# Altium schematic symbol library stm32xx.SCHLIB: 1 symbol
Pins are listed as number, name and electrical type; pins without a type are passive.

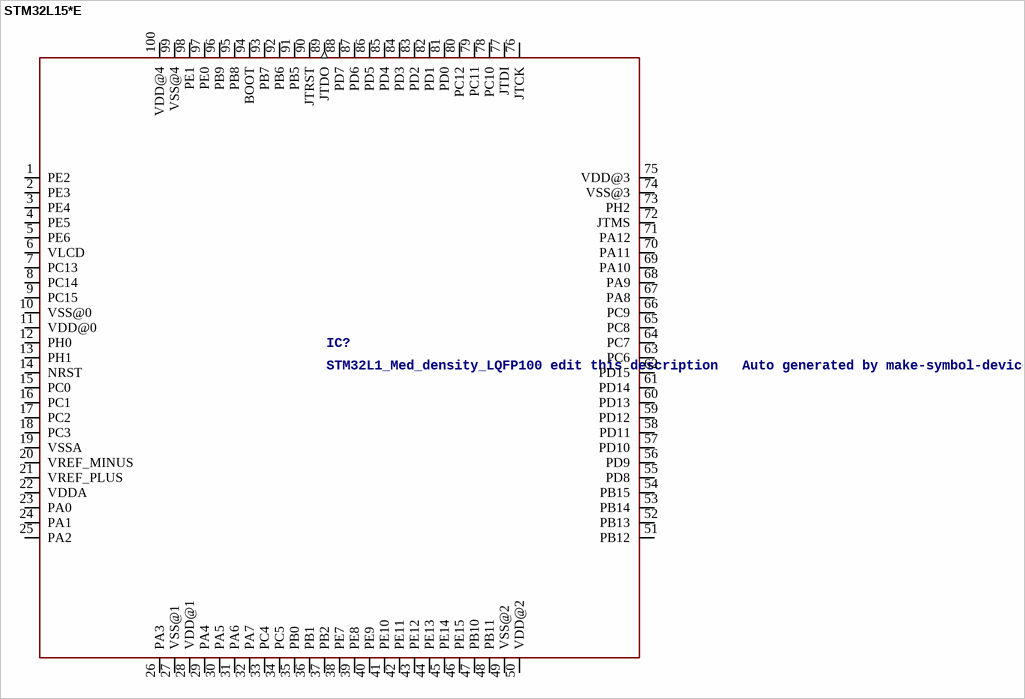
[diagram p0: symbol STM32L15*E]

## STM32L15*E
designator IC?, comment STM32L1_Med_density_LQFP100 edit this description   Auto generated by make-symbol-device-package-bsdl.ulp Rev. 44 Source: STM32L1_Med_density_LQFP100.bsd
footprint LQFP100_14X14
pins: 1 PE2, 2 PE3, 3 PE4, 4 PE5, 5 PE6, 6 VLCD, 7 PC13, 8 PC14, 9 PC15, 10 VSS@0 (power), 11 VDD@0 (power), 12 PH0, 13 PH1, 14 NRST, 15 PC0, 16 PC1, 17 PC2, 18 PC3, 19 VSSA (power), 20 VREF_MINUS, 21 VREF_PLUS, 22 VDDA (power), 23 PA0, 24 PA1, 25 PA2, 26 PA3, 27 VSS@1 (power), 28 VDD@1 (power), 29 PA4, 30 PA5, 31 PA6, 32 PA7, 33 PC4, 34 PC5, 35 PB0, 36 PB1, 37 PB2, 38 PE7, 39 PE8, 40 PE9, 41 PE10, 42 PE11, 43 PE12, 44 PE13, 45 PE14, 46 PE15, 47 PB10, 48 PB11, 49 VSS@2 (power), 50 VDD@2 (power), 51 PB12, 52 PB13, 53 PB14, 54 PB15, 55 PD8, 56 PD9, 57 PD10, 58 PD11, 59 PD12, 60 PD13, 61 PD14, 62 PD15, 63 PC6, 64 PC7, 65 PC8, 66 PC9, 67 PA8, 68 PA9, 69 PA10, 70 PA11, 71 PA12, 72 JTMS, 73 PH2, 74 VSS@3 (power), 75 VDD@3 (power), 76 JTCK, 77 JTDI, 78 PC10, 79 PC11, 80 PC12, 81 PD0, 82 PD1, 83 PD2, 84 PD3, 85 PD4, 86 PD5, 87 PD6, 88 PD7, 89 JTDO (out), 90 JTRST, 91 PB5, 92 PB6, 93 PB7, 94 BOOT, 95 PB8, 96 PB9, 97 PE0, 98 PE1, 99 VSS@4 (power), 100 VDD@4 (power)